# Altium footprint library Lab5.PcbLib: 2 footprints
Each footprint in its own frame and in the unit in brackets; x right, y up, seen from the top. Pads: shape width x height; smd on the part's side, far side on the other; paste and mask are expansions set on the pad; w line width, h text height; cw(c..) or ccw(c..) is an arc to the next point about the centre after c.
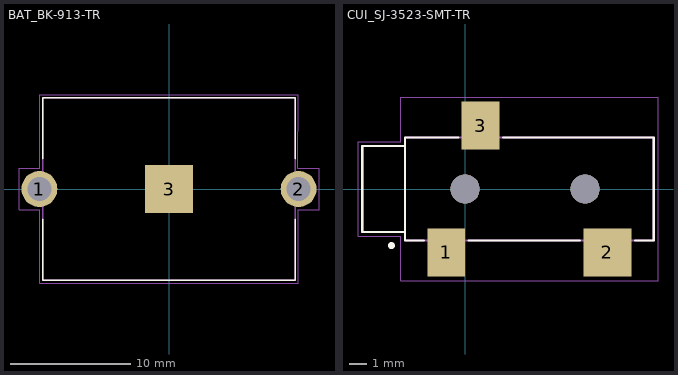
[diagram p0: the footprints below, top view; thin cyan lines are the x and y axes]

## BAT_BK-913-TR [mm]
pads (3):
  round 3 hole 2: 1(-10.8,0) 2(10.8,0)
  rect 3.96x3.96 smd: 3(0,0)
Top Overlay:
  lines w0.127: -10.54,-2.54 -10.54,-7.62 10.54,-7.62 10.54,-2.54 ; -10.54,2.54 -10.54,7.62 10.54,7.62 10.54,2.54
Mechanical 13:
  lines w0.127: -10.56,-1.1 -11.175,-1.1 -11.175,1.1 -10.56,1.1 ; 10.56,-1.1 11.175,-1.1 11.175,1.1 10.56,1.1 ; -10.54,-7.62 -10.54,7.62 10.54,7.62 10.54,-7.62 -10.54,-7.62
Mechanical 15:
  lines w0.05: -12.5,-1.75 -12.5,1.75 -10.79,1.75 -10.79,7.87 10.79,7.87 10.75,1.75 12.5,1.75 12.5,-1.75 10.79,-1.75 10.79,-7.87 -10.79,-7.87 -10.79,-1.75 -12.5,-1.75
3D body "step_temp.STEP": height 4.27, standoff -2.79, extent -11.151,-7.62 11.151,7.671

## CUI_SJ-3523-SMT-TR [mm]
pads (5):
  rect 2.2x2.8 smd: 1(-1.1,-3.7) 3(0.9,3.7)
  rect 2.8x2.8 smd: 2(8.3,-3.7)
  round 1.7 hole 1.7 unplated: ""(0,0) ""(7,0)
Top Overlay:
  circle w0.2: c-4.3,-3.3 r0.1
  lines w0.127: -2.4,-3 -3.5,-3 -3.5,-2.5 ; -0.4,3 -3.5,3 -3.5,2.5 ; 0.2,-3 6.7,-3 ; 2.2,3 11,3 11,-3 9.9,-3 ; -3.5,-2.5 -3.5,2.5 ; -3.5,-2.5 -6,-2.5 -6,2.5 -3.5,2.5
Mechanical 13:
  circle w0.2: c-4.3,-3.3 r0.1
  lines w0.127: -3.5,-2.5 -6,-2.5 -6,2.5 -3.5,2.5 ; -3.5,-3 -3.5,3 11,3 11,-3 -3.5,-3
Mechanical 15:
  lines w0.05: -6.25,-2.75 -6.25,2.75 -3.75,2.75 -3.75,5.35 11.25,5.35 11.25,-5.35 -3.75,-5.35 -3.75,-2.75 -6.25,-2.75